# EAGLE library part MB85RS1MT (library agsys-valvecontrol)
MB85RS1MT SPI FRAM 1Mbit (128KB)
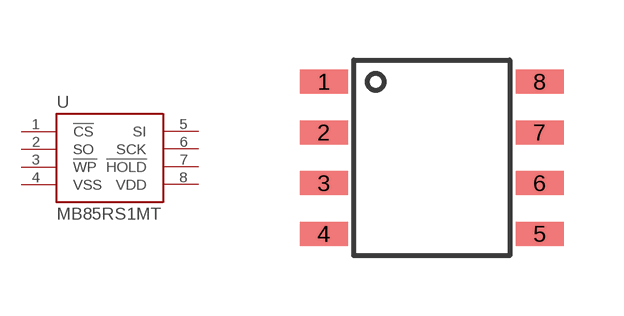
[diagram p8: symbol with the pads of SOIC-8; footprint SOIC-8]

Designator prefix U

## MB85RS1MT  [SOIC-8]
1  !CS  in
2  SO  out
3  !WP  in
4  VSS  pwr
5  SI  in
6  SCK  in
7  !HOLD  in
8  VDD  pwr

## Footprint SOIC-8 (pad centres in mm)
SOIC-8 - SN65HVD230, MB85RS1MT, W25Q16
smd 1.2 x 0.6: 1 -2.7,1.905; 2 -2.7,0.635; 3 -2.7,-0.635; 4 -2.7,-1.905; 5 2.7,-1.905; 6 2.7,-0.635; 7 2.7,0.635; 8 2.7,1.905